# Altium footprint library MULTI RELY.PcbLib: 25 footprints (part 2 of 2)
Each footprint in its own frame and in the unit in brackets; x right, y up, seen from the top. Pads: shape width x height; smd on the part's side, far side on the other; paste and mask are expansions set on the pad; w line width, h text height; cw(c..) or ccw(c..) is an arc to the next point about the centre after c.
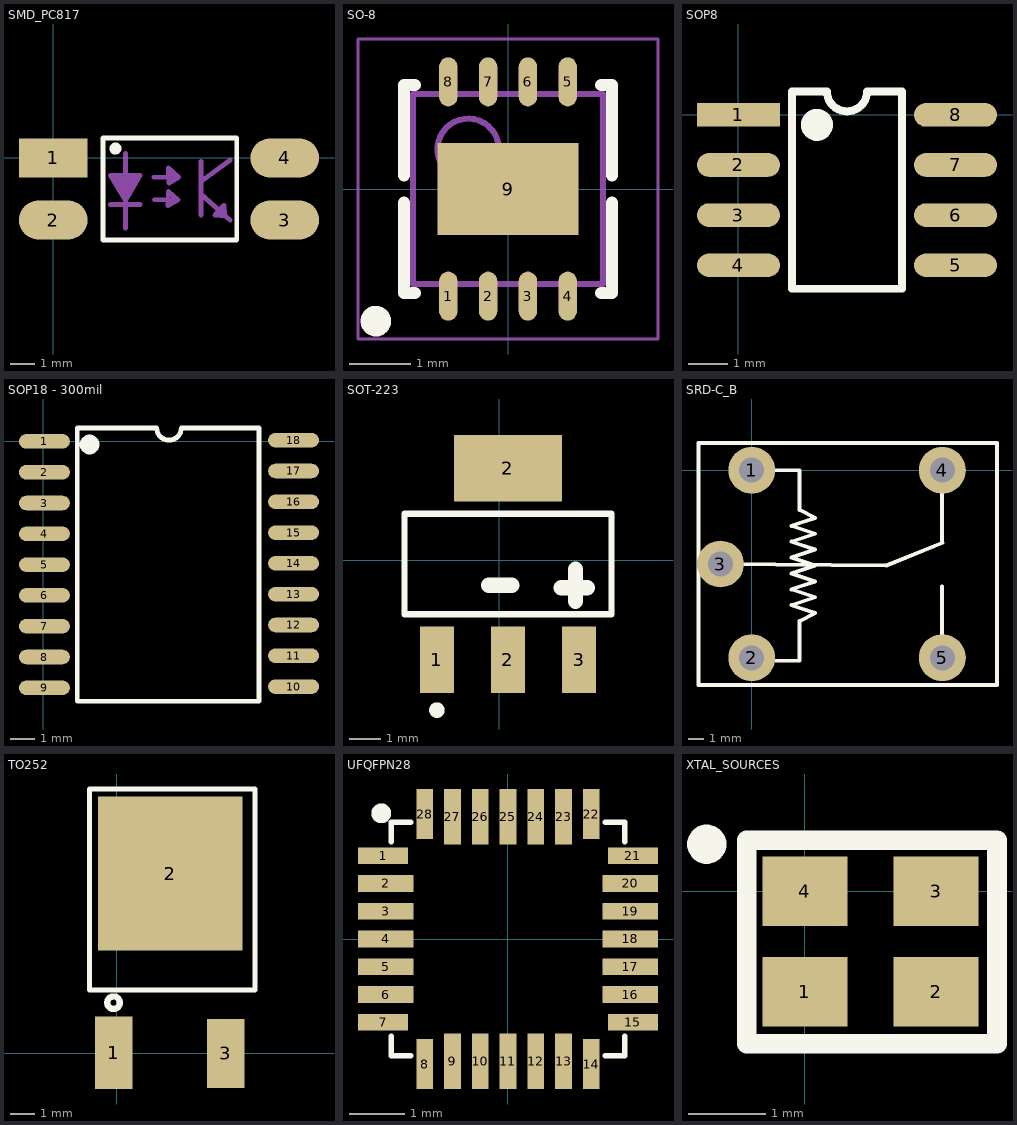
[diagram p1: the footprints below, top view; thin cyan lines are the x and y axes]

## SMD_PC817 [mm]
pads (4):
  rect 2.8x1.6 smd mask+0: 1(0,0)
  oval 2.8x1.6 smd mask+0: 2(0,-2.54) 3(9.452,-2.54) 4(9.452,0)
Top Overlay:
  circle w0.3: c2.54,0.381 r0.096
  lines w0.2: 2.032,-3.36 2.032,0.82 7.493,0.82 7.493,-3.36 2.032,-3.36
Mechanical 2:
  lines w0.127: -0.375,-3.137 0.293,-3.137 0.293,-1.943 -0.375,-1.943 -0.375,-3.137 ; -0.375,-0.597 0.293,-0.597 0.293,0.597 -0.375,0.597 -0.375,-0.597 ; 9.116,-3.137 9.785,-3.137 9.785,-1.943 9.116,-1.943 9.116,-3.137 ; 9.116,-0.597 9.785,-0.597 9.785,0.597 9.116,0.597 9.116,-0.597
Mechanical 3:
  region: 2.309,-0.843 2.747,-1.457 3.036,-1.251 2.598,-0.636
  region: 3.005,-1.551 3.485,-0.836 3.189,-0.638 2.71,-1.353
  rectangle: 2.673,-1.101 3.321,-0.727
  lines w0.2: 2.335,-1.9 3.545,-1.91 ; 2.952,-2.86 2.952,0.188 ; 4.105,-0.79 5.125,-0.79 ; 4.135,-1.71 5.095,-1.71 ; 4.705,-0.79 4.695,-0.41 5.125,-0.79 ; 4.879,-0.573 4.735,-0.79 4.715,-1.03 5.125,-0.79 ; 6.026,-2.33 6.026,-0.14 ; 6.026,-1.48 7.229,-2.547 ; 6.026,-0.96 7.225,-0.081 ; 7.005,-2.348 6.965,-1.94 6.763,-2.134 6.605,-2.34 7.029,-2.37 ; 5.095,-1.71 4.695,-1.38 4.695,-1.71 4.685,-1.94 5.095,-1.71 ; 2.343,-0.727 3.536,-0.727 2.952,-1.743 2.343,-0.727
3D body "SMD-PC817.STEP": height 3.85, standoff 0, extent -0.301,-3.56 9.699,1.02

## SO-8 [mm]
pads (9):
  oval 0.3x0.8 smd: 1(-0.975,-1.75) 2(-0.325,-1.75) 3(0.325,-1.75) 4(0.975,-1.75) 5(0.975,1.75) 6(0.325,1.75) 7(-0.325,1.75) 8(-0.975,1.75)
  rect 2.3x1.5 smd: 9(0,0)
Top Overlay:
  circle w0.25: c-2.159,-2.159 r0.125
  lines w0.2: -1.7,-0.225 -1.7,-1.7 -1.525,-1.7 ; -1.7,0.225 -1.7,1.7 -1.525,1.7 ; 1.525,-1.7 1.7,-1.7 1.7,-0.225 ; 1.525,1.7 1.7,1.7 1.7,0.225
Mechanical 13:
  circle w0.1: c-0.65,0.65 r0.5
  lines w0.1: -1.55,-1.55 1.55,-1.55 1.55,1.55 -1.55,1.55 -1.55,-1.55
Mechanical 15:
  lines w0.05: -2.45,-2.45 2.45,-2.45 2.45,2.45 -2.45,2.45 -2.45,-2.45
  lines w0.1: -0.5,0 0.5,0 ; 0,-0.5 0,0.5
3D body "SIT1050TK.step": height 0.9, standoff 0, extent -1.55,-1.551 1.55,1.551

## SOP8 [mm]
pads (8):
  rect 2.1x0.6 smd: 1(0,0)
  oval 2.1x0.6 smd: 2(0,-1.27) 3(0,-2.54) 4(0,-3.81) 5(5.5,-3.81) 6(5.5,-2.54) 7(5.5,-1.27) 8(5.5,0)
Top Overlay:
  circle w0.5: c1.988,-0.254 r0.155
  lines w0.2: 1.353,0.595 1.353,-4.405 4.147,-4.405 4.147,0.595
  lines w0.203: 1.353,0.595 2.242,0.595 ccw(c2.75,0.595) 2.75,0.087 ccw(c2.75,0.595) 3.258,0.595 4.147,0.595
3D body "SOP8.STEP": height 1.9, standoff 0, extent -0.361,-4.369 5.644,0.631

## SOP18 - 300mil [mm]
pads (18):
  oval 2.1x0.6 smd: 1(0.046,0) 2(0.046,-1.27) 3(0.046,-2.54) 4(0.046,-3.81) 5(0.046,-5.08) 6(0.046,-6.35) 7(0.046,-7.62) 8(0.046,-8.89) 9(0.046,-10.16) 10(10.317,-10.109) 11(10.317,-8.839) 12(10.317,-7.569) 13(10.317,-6.299) 14(10.317,-5.029) 15(10.317,-3.759) 16(10.317,-2.489) 17(10.317,-1.219) 18(10.317,0.051)
Top Overlay:
  circle w0.5: c1.905,-0.127 r0.155
  lines w0.2: 1.397,0.555 1.397,-10.715 8.897,-10.715 ; 8.89,-10.715 8.89,0.555
  lines w0.203: 1.397,0.555 4.674,0.555 ; 4.674,0.559 ccw(c5.182,0.559) 5.182,0.051 ccw(c5.182,0.559) 5.69,0.559 ; 5.69,0.555 8.89,0.555

## SOT-223 [mm]
pads (4):
  rect 1.1x2.15 smd: 1(-2.012,-3.227) 2(0.288,-3.227) 3(2.588,-3.227)
  rect 3.5x2.15 smd: 2(0.288,2.973)
Top Overlay:
  circle w0.25: c-2.012,-4.852 r0.125
  lines w0.2: -3.062,-1.752 -3.062,1.498 3.638,1.498 3.638,-1.752 -3.062,-1.752
  lines w0.5: -0.339,-0.81 0.411,-0.81 ; 2.011,-0.89 2.851,-0.89 ; 2.471,-1.33 2.471,-0.29
3D body "SOT-223_MP04A.STEP": height 1.7, standoff 0, extent -2.996,-3.48 3.504,3.48

## SRD-C_B [mm]
pads (5):
  round 3 hole 1.6: 1(0,0) 2(0,-12) 3(-2,-6) 4(12.2,0) 5(12.2,-12)
Top Overlay:
  lines w0.254: -2,-6 8.636,-6.096 12.22,-4.64 ; 1.524,-12.192 3.048,-12.192 3.048,-10.668 3.048,-9.652 4.064,-9.144 2.54,-8.636 4.064,-8.128 2.54,-7.62 4.064,-7.112 2.54,-6.604 4.064,-6.096 2.54,-5.588 4.064,-5.08 2.54,-4.572 4.064,-4.064 2.54,-3.556 4.064,-3.048 3.048,-2.54 3.048,0 1.524,0 ; 12.192,-10.668 12.192,-8.636 ; 12.192,-9.144 12.192,-7.429 ; 12.192,-4.572 12.192,-1.524 ; -3.4,-13.75 -3.4,1.75 15.7,1.75 15.7,-13.75 -3.4,-13.75
3D body "SRD-C_B-.STEP": height 15.6, standoff -3.4, extent -3.327,-13.849 15.773,1.651

## TO252 [mil]
pads (3):
  rect 60x115 smd: 1(-4.55,0.23)
  rect 230x245 smd: 2(85,285.35)
  rect 60x110 smd: 3(173.45,-0.77)
Top Overlay:
  circle w10: c-5,80 r10
  lines w7.87: -42.95,100 220,100 220,147.56 220,420 -42.95,420 -42.95,147.56 -42.95,100
3D body "2.STEP": height 90.55, standoff 0, extent -40.91,4.58 215,375.42

## UFQFPN28 [mm]
pads (28):
  rect 0.9x0.3 smd: 1(-2.25,1.5) 7(-2.25,-1.5) 15(2.25,-1.5) 21(2.25,1.5)
  rect 1x0.3 smd: 2(-2.2,1) 3(-2.2,0.5) 4(-2.2,0) 5(-2.2,-0.5) 6(-2.2,-1) 16(2.2,-1) 17(2.2,-0.5) 18(2.2,0) 19(2.2,0.5) 20(2.2,1)
  rect 0.3x0.9 smd: 8(-1.5,-2.25) 14(1.5,-2.25) 22(1.5,2.25) 28(-1.5,2.25)
  rect 0.3x1 smd: 9(-1,-2.2) 10(-0.5,-2.2) 11(0,-2.2) 12(0.5,-2.2) 13(1,-2.2) 23(1,2.2) 24(0.5,2.2) 25(0,2.2) 26(-0.5,2.2) 27(-1,2.2)
Top Overlay:
  circle w0.254: c-2.281,2.262 r0.05
  lines w0.1: -2.1,-1.75 -2.1,-2.1 -1.75,-2.1 ; -2.1,1.75 -2.1,2.1 -1.75,2.1 ; 1.75,-2.1 2.1,-2.1 2.1,-1.75 ; 1.75,2.1 2.1,2.1 2.1,1.75

## XTAL_SOURCES [mm]
pads (4):
  rect 1.1x0.9 smd: 1(0,-1.3) 2(1.7,-1.3) 3(1.7,0) 4(0,0)
Top Overlay:
  circle w0.254: c-1.27,0.61 r0.127
  lines w0.254: -0.753,-1.972 2.489,-1.972 2.489,0.66 -0.753,0.66 -0.753,-1.972
3D body: height 0.9, standoff 0, extent -0.15,-0.35 0.25,0.049